# Altium footprint library MUSBR-3193-M0.PcbLib: 1 footprints
Each footprint in its own frame and in the unit in brackets; x right, y up, seen from the top. Pads: shape width x height; smd on the part's side, far side on the other; paste and mask are expansions set on the pad; w line width, h text height; cw(c..) or ccw(c..) is an arc to the next point about the centre after c.
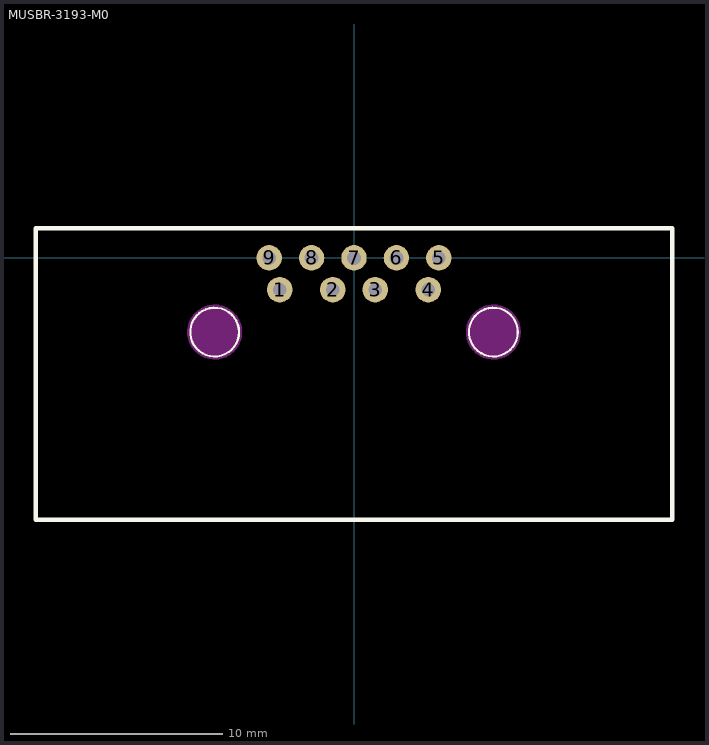
[diagram p0: the footprint, top view; thin cyan lines are the x and y axes]

## MUSBR-3193-M0 [mm] "MUSBR-3193-M0"
pads (9):
  round 1.2 / inner round 1 / far side round 1.1 hole 0.65 mask+0.015: 1(-3.5,-1.5) 2(-1,-1.5) 3(1,-1.5) 4(3.5,-1.5) 5(4,0) 6(2,0) 7(0,0) 8(-2,0) 9(-4,0)
Top Overlay:
  circle w0.1: c-6.57,-3.5 r1.15
  circle w0.1: c6.57,-3.5 r1.15
  lines w0.2: -15,-12.35 -15,1.4 15,1.4 15,-12.35 -15,-12.35
Keep-Out Layer:
  board cut-out: -6.57,-4.65 -6.683,-4.65 -6.905,-4.606 -7.115,-4.519 -7.303,-4.393 -7.463,-4.233 -7.589,-4.045 -7.676,-3.835 -7.72,-3.613 -7.72,-3.5 -7.72,-3.387 -7.676,-3.165 -7.589,-2.955 -7.463,-2.767 -7.303,-2.607 -7.115,-2.481 -6.905,-2.394 -6.683,-2.35 -6.57,-2.35 -6.457,-2.35 -6.235,-2.394 -6.025,-2.481 -5.837,-2.607 -5.677,-2.767 -5.551,-2.955 -5.464,-3.165 -5.42,-3.387 -5.42,-3.5 -5.42,-3.613 -5.464,-3.835 -5.551,-4.045 -5.677,-4.233 -5.837,-4.393 -6.025,-4.519 -6.235,-4.606 -6.457,-4.65
  board cut-out: 6.57,-4.65 6.683,-4.65 6.905,-4.606 7.115,-4.519 7.303,-4.393 7.463,-4.233 7.589,-4.045 7.676,-3.835 7.72,-3.613 7.72,-3.5 7.72,-3.387 7.676,-3.165 7.589,-2.955 7.463,-2.767 7.303,-2.607 7.115,-2.481 6.905,-2.394 6.683,-2.35 6.57,-2.35 6.457,-2.35 6.235,-2.394 6.025,-2.481 5.837,-2.607 5.677,-2.767 5.551,-2.955 5.464,-3.165 5.42,-3.387 5.42,-3.5 5.42,-3.613 5.464,-3.835 5.551,-4.045 5.677,-4.233 5.837,-4.393 6.025,-4.519 6.235,-4.606 6.457,-4.65
Keep-Out Layer:
  circle w0.3: c-6.57,-3.5 r1.15
  circle w0.3: c6.57,-3.5 r1.15
Top Assembly:
  lines w0.1: -15,-12.35 -15,1.4 15,1.4 15,-12.35 -15,-12.35
  text "'.Designator'" at -2.85,-7.1 h0.7
3D body "ACC-M-MUSBR-3193-X0-REVT2.step": height 12.5, standoff -2.5, extent -15,-18.6 15,1.4